# EAGLE library part RJ45-1000BASE-POE (library ds_con)
Right Angle 1G Mag Jack w/ POE Tab Up, Shielded w/ EMI Fingers, LEDs
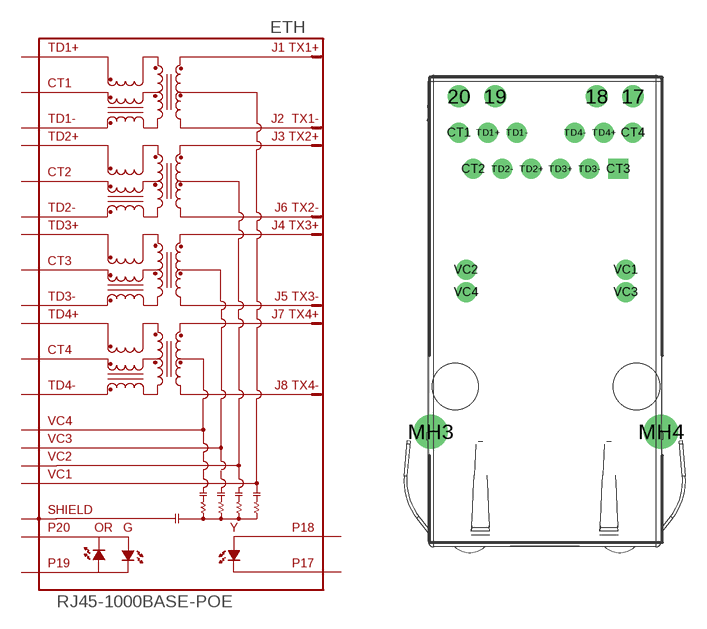
[diagram p38: symbol with the pads of RJ45-1000BASE-POE; footprint RJ45-1000BASE-POE]

Designator prefix ETH

## RJ45-1000BASE-POE  [RJ45-1000BASE-POE]
17  P17
18  P18
19  P19
20  P20
CT1  CT1
CT2  CT2
CT3  CT3
CT4  CT4
MH3  SHIELD
MH4  SHIELD
TD1+  TD1+
TD1-  TD1-
TD2+  TD2+
TD2-  TD2-
TD3+  TD3+
TD3-  TD3-
TD4+  TD4+
TD4-  TD4-
VC1  VC1
VC2  VC2
VC3  VC3
VC4  VC4

## Footprint RJ45-1000BASE-POE (pad centres in mm)
drill 1.02 pad 1.53: 17 6.11,15.24; 18 3.57,15.24; 19 -3.54,15.24; 20 -6.08,15.24
drill 0.9 pad 1.4: CT1 -6.08,12.7; CT2 -5.07,10.16; CT4 6.1,12.7; TD1+ -4.05,12.7; TD1- -2.02,12.7; TD2+ -1.01,10.16; TD2- -3.04,10.16; TD3+ 1.02,10.16; TD3- 3.05,10.16; TD4+ 4.07,12.7; TD4- 2.04,12.7
drill 0.9 pad 1.4 square: CT3 5.08,10.16
drill 1.6 pad 2.4: MH3 -8.06,-8.25; MH4 8.08,-8.25
drill 0.9 pad 1.25: VC1 5.6,3.1; VC2 -5.58,3.1; VC3 5.6,1.53; VC4 -5.58,1.53
hole 3.25 at -6.34,-5.08
hole 3.25 at 6.36,-5.08